# Altium footprint library SmarTRC_home.PcbLib: 21 footprints (part 2 of 2)
Each footprint in its own frame and in the unit in brackets; x right, y up, seen from the top. Pads: shape width x height; smd on the part's side, far side on the other; paste and mask are expansions set on the pad; w line width, h text height; cw(c..) or ccw(c..) is an arc to the next point about the centre after c.
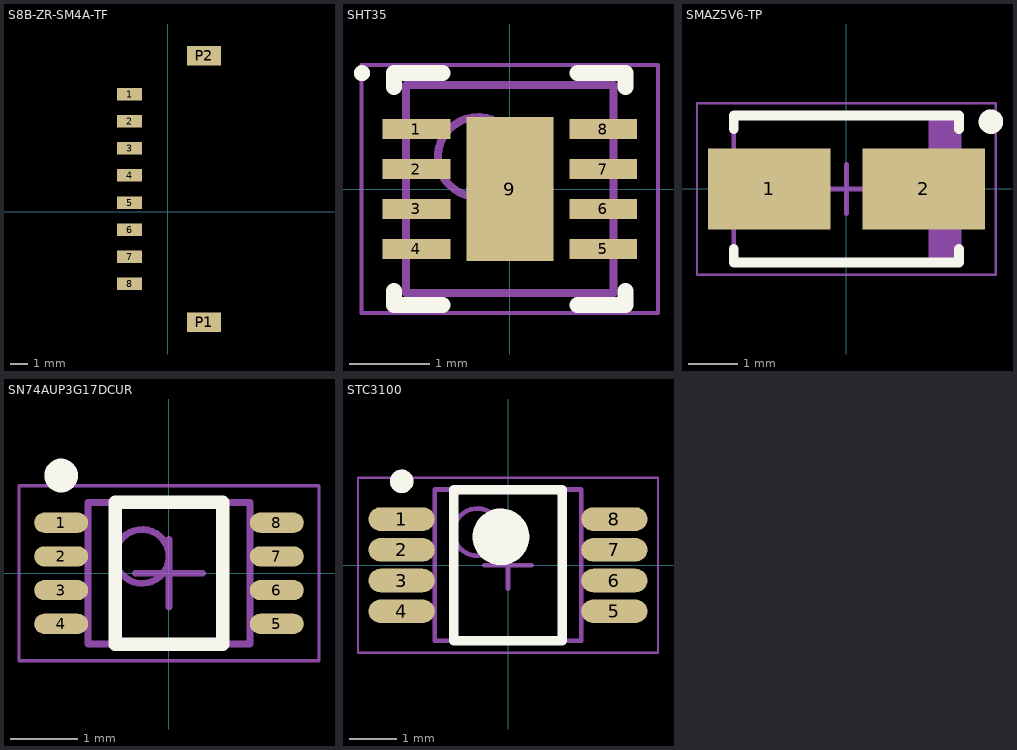
[diagram p1: the footprints below, top view; thin cyan lines are the x and y axes]

## S8B-ZR-SM4A-TF [mm]
pads (10):
  rect 1.4x0.7 smd: 1(-2.159,6.604) 2(-2.159,5.08) 3(-2.159,3.556) 4(-2.159,2.032) 5(-2.159,0.508) 6(-2.159,-1.016) 7(-2.159,-2.54) 8(-2.159,-4.064)
  rect 1.9x1.1 smd: P1(2.032,-6.223) P2(2.032,8.763)
3D body "S8B-ZR-SM4A-TF.STEP": height 3.7, standoff 0, extent -2.563,-6.23 3.937,8.77

## SHT35 [mm]
height 1
pads (9):
  rect 0.85x0.25 smd: 1(-1.17,0.75) 2(-1.17,0.25) 3(-1.17,-0.25) 4(-1.17,-0.75) 5(1.17,-0.75) 6(1.17,-0.25) 7(1.17,0.25) 8(1.17,0.75)
  rect 1.09x1.8 smd: 9(0,0)
Top Overlay:
  circle w0.1: c-1.85,1.45 r0.05
  lines w0.2: -1.45,-1.275 -1.45,-1.45 -0.845,-1.45 ; -1.45,1.275 -1.45,1.45 -0.845,1.45 ; 0.845,-1.45 1.45,-1.45 1.45,-1.275 ; 0.845,1.45 1.45,1.45 1.45,1.275
Mechanical 13:
  circle w0.1: c-0.4,0.4 r0.5
  lines w0.1: -1.3,-1.3 1.3,-1.3 1.3,1.3 -1.3,1.3 -1.3,-1.3
Mechanical 15:
  lines w0.05: -1.855,-1.55 1.855,-1.55 1.855,1.55 -1.855,1.55 -1.855,-1.55
  lines w0.1: -0.5,0 0.5,0 ; 0,-0.5 0,0.5
3D body: height 1, standoff 0.2, extent -1.3,-1.3 1.3,1.3

## SMAZ5V6-TP [mm]
height 2.44
pads (2):
  rect 2.5x1.65 smd: 1(-1.575,0) 2(1.575,0)
Top Overlay:
  circle w0.25: c2.95,1.375 r0.125
  lines w0.2: -2.3,-1.225 -2.3,-1.5 2.3,-1.5 2.3,-1.225 ; -2.3,1.225 -2.3,1.5 2.3,1.5 2.3,1.225
Mechanical 13:
  rectangle: 1.681,-1.46 2.3,1.46
  lines w0.1: -2.3,-1.46 -2.3,1.46 2.3,1.46 2.3,-1.46 -2.3,-1.46
Mechanical 15:
  lines w0.05: -3.05,-1.75 -3.05,1.75 3.05,1.75 3.05,-1.75 -3.05,-1.75
  lines w0.1: -0.5,0 0.5,0 ; 0,-0.5 0,0.5
3D body "SMAZ5V6-TP.step": height 2.44, standoff 0, extent -2.52,-1.46 2.52,1.46
3D body: height 5.91, standoff 0.25, extent 2.032,1.778 2.032,1.778
3D body: height 2.45, standoff 1, extent 1.016,-1.397 1.397,1.397

## SN74AUP3G17DCUR [mm]
height 0.9
pads (8):
  oval 0.8x0.3 smd: 1(-1.6,0.75) 2(-1.6,0.25) 3(-1.6,-0.25) 4(-1.6,-0.75) 5(1.6,-0.75) 6(1.6,-0.25) 7(1.6,0.25) 8(1.6,0.75)
Top Overlay:
  circle w0.25: c-1.6,1.45 r0.125
  lines w0.2: -0.8,-1.05 0.8,-1.05 0.8,1.05 -0.8,1.05 -0.8,-1.05
Mechanical 13:
  circle w0.1: c-0.4,0.25 r0.4
  lines w0.1: -1.2,-1.05 1.2,-1.05 1.2,1.05 -1.2,1.05 -1.2,-1.05
Mechanical 15:
  lines w0.05: -2.225,-1.3 2.225,-1.3 2.225,1.3 -2.225,1.3 -2.225,-1.3
  lines w0.1: -0.5,0 0.5,0 ; 0,-0.5 0,0.5
3D body: height 0.9, standoff 0.1, extent -1.2,-1.05 1.2,1.05

## STC3100 [mm]
height 1.1
pads (8):
  oval 1.4x0.5 smd: 1(-2.25,0.975) 2(-2.25,0.325) 3(-2.25,-0.325) 4(-2.25,-0.975) 5(2.25,-0.975) 6(2.25,-0.325) 7(2.25,0.325) 8(2.25,0.975)
Top Overlay:
  circle w0.6: c-0.15,0.6 r0.3
  circle w0.25: c-2.25,1.775 r0.125
  lines w0.2: -1.15,-1.6 1.15,-1.6 1.15,1.6 -1.15,1.6 -1.15,-1.6
Mechanical 13:
  circle w0.1: c-0.65,0.7 r0.5
  lines w0.1: -1.55,-1.6 1.55,-1.6 1.55,1.6 -1.55,1.6 -1.55,-1.6
Mechanical 15:
  lines w0.05: -3.175,-1.85 3.175,-1.85 3.175,1.85 -3.175,1.85 -3.175,-1.85
  lines w0.1: -0.5,0 0.5,0 ; 0,-0.5 0,0.5
3D body: height 1.1, standoff 0.15, extent -1.55,-1.6 1.55,1.6